# Altium footprint library EasyARM-i.MX283-EV V1.01.PcbLib: 48 footprints (part 1 of 3)
Each footprint in its own frame and in the unit in brackets; x right, y up, seen from the top. Pads: shape width x height; smd on the part's side, far side on the other; paste and mask are expansions set on the pad; w line width, h text height; cw(c..) or ccw(c..) is an arc to the next point about the centre after c.
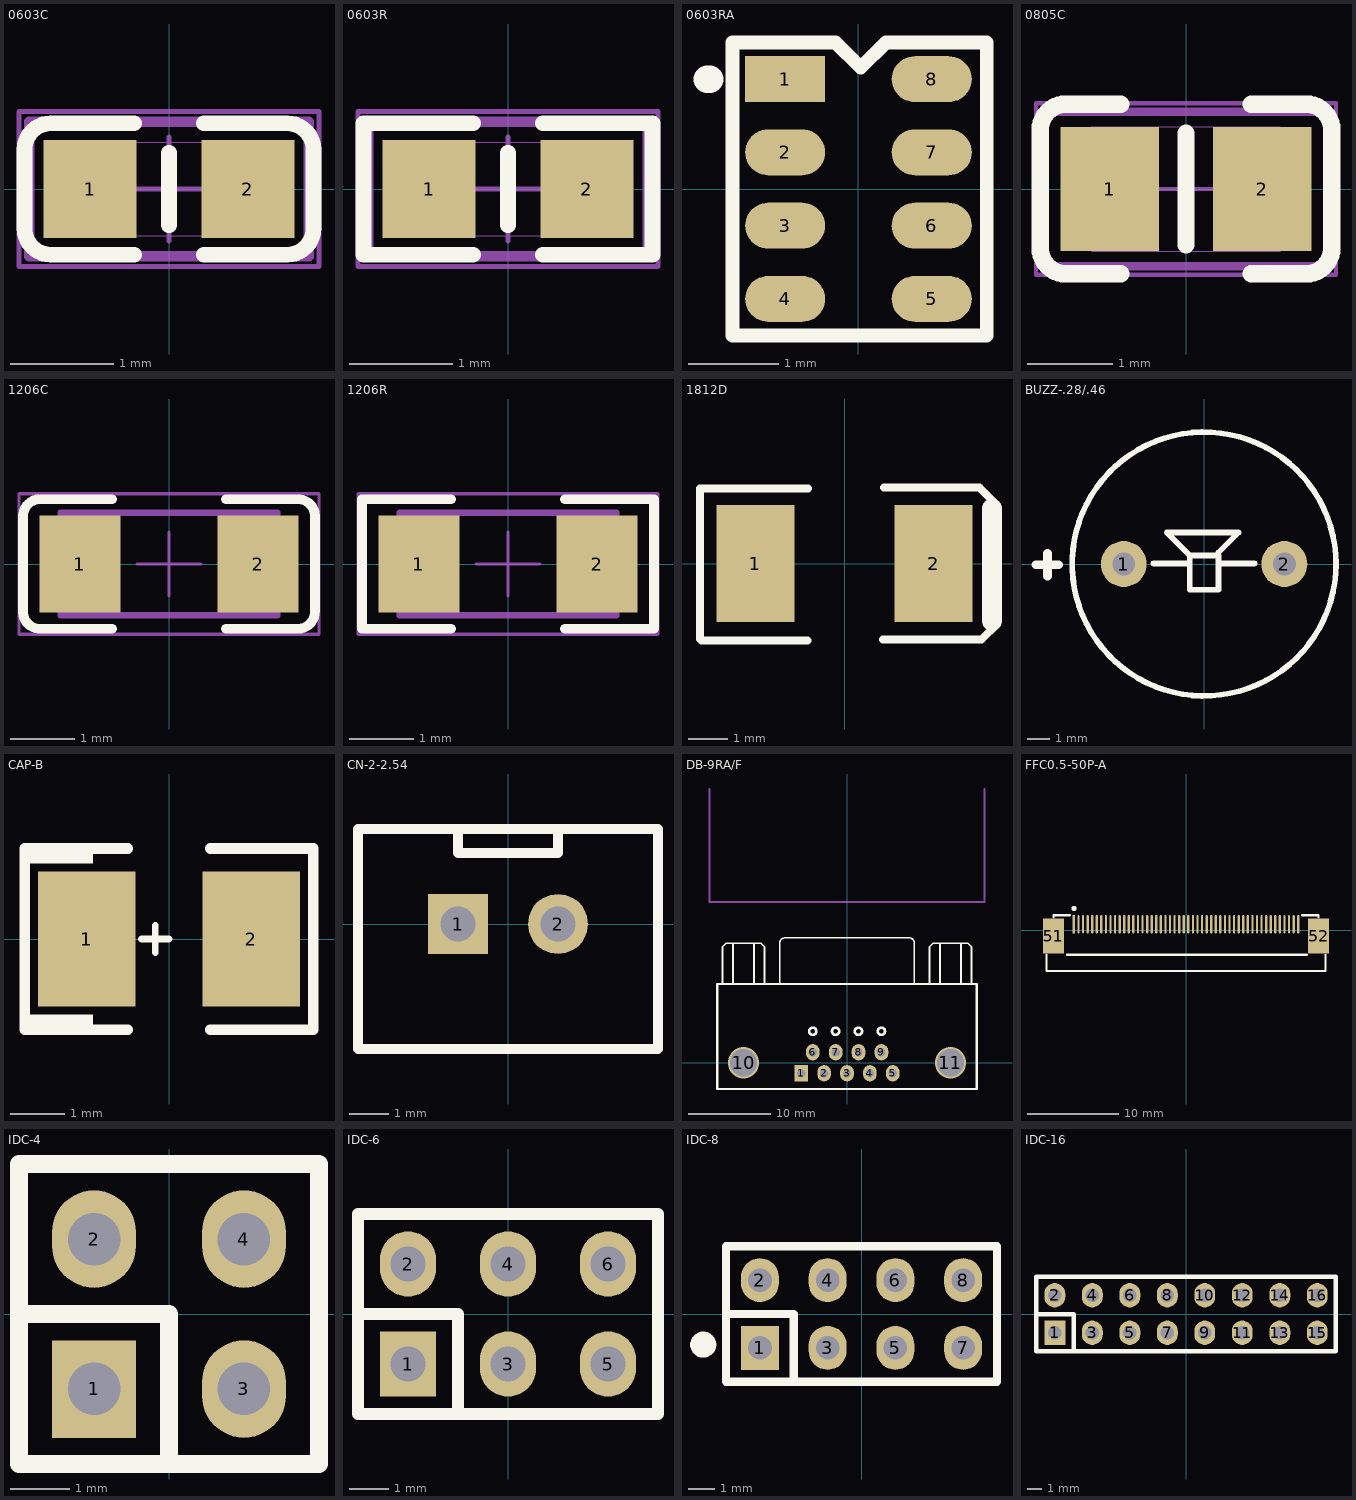
[diagram p0: the footprints below, top view; thin cyan lines are the x and y axes]

## 0603C [mm]
pads (2):
  rect 0.9x0.95 smd: 1(-0.762,0) 2(0.762,0)
Top Overlay:
  lines w0.152: -0.337,-0.635 -1.143,-0.635 cw(c-1.143,-0.381) -1.397,-0.381 -1.397,0.381 cw(c-1.143,0.381) -1.143,0.635 -0.337,0.635 ; 0,-0.35 0,0.35 ; 0.337,-0.635 1.143,-0.635 ccw(c1.143,-0.381) 1.397,-0.381 1.397,0.381 ccw(c1.143,0.381) 1.143,0.635 0.337,0.635
Mechanical 15:
  lines w0.1: -1.35,-0.65 1.35,-0.65 1.35,0.65 -1.35,0.65 -1.35,-0.65
  text "1" at -0.126,-0.345 h0.58
Mechanical 16:
  lines w0.001: -0.85,-0.45 0.85,-0.45 0.85,0.45 -0.85,0.45 -0.85,-0.45
  lines w0.05: -0.5,0 0.5,0 ; 0,-0.5 0,0.5 ; -1.45,-0.75 1.45,-0.75 1.45,0.75 -1.45,0.75 -1.45,-0.75
3D body: height 0.3, standoff 0, extent -0.789,-0.381 0.811,0.419

## 0603R [mm]
pads (2):
  rect 0.9x0.95 smd: 1(-0.762,0) 2(0.762,0)
Top Overlay:
  lines w0.152: -0.337,-0.635 -1.397,-0.635 -1.397,0.635 -0.337,0.635 ; 0,-0.35 0,0.35 ; 0.337,-0.635 1.397,-0.635 1.397,0.635 0.337,0.635
Mechanical 15:
  lines w0.1: -1.35,-0.65 -1.35,0.65 1.35,0.65 1.35,-0.65 -1.35,-0.65
  text "1" at -0.126,-0.345 h0.58
Mechanical 16:
  lines w0.001: -0.85,-0.45 -0.85,0.45 0.85,0.45 0.85,-0.45 -0.85,-0.45
  lines w0.05: -0.5,0 0.5,0 ; 0,-0.5 0,0.5 ; -1.45,-0.75 -1.45,0.75 1.45,0.75 1.45,-0.75 -1.45,-0.75
3D body: height 0.3, standoff 0, extent -0.8,-0.4 0.8,0.4

## 0603RA [mil]
pads (8):
  rect 35x20 smd: 1(-32,48)
  oval 35x20 smd: 2(-32,16) 3(-32,-16) 4(-32,-48) 5(32,-48) 6(32,-16) 7(32,16) 8(32,48)
Top Overlay:
  lines w6: -55,-64 56,-64 56,64 12,64 1,53 -10,64 -55,64 -55,-64
  lines w12: -66,48 -65,48
3D body: height 21.73, standoff 0, extent 23.62,5.91 33.46,25.59
3D body: height 21.73, standoff 0, extent 23.62,37.4 33.46,57.09
3D body: height 21.73, standoff 0, extent 23.62,-25.59 33.46,-5.91
3D body: height 21.73, standoff 0, extent 23.62,-57.09 33.46,-37.4
3D body: height 21.73, standoff 0, extent -33.46,-57.09 -23.62,-37.4
3D body: height 21.73, standoff 0, extent -33.46,-25.59 -23.62,-5.91
3D body: height 21.73, standoff 0, extent -33.46,37.4 -23.62,57.09
3D body: height 21.73, standoff 0, extent -33.46,5.91 -23.62,25.59
3D body: height 21.65, standoff 20.47, extent -25.59,-62.99 25.59,62.99
3D body: height 20.87, standoff 0, extent -31.5,-62.99 31.5,62.99

## 0805C [mm]
pads (2):
  rect 1.15x1.45 smd: 1(-0.889,0) 2(0.889,0)
Top Overlay:
  lines w0.2: 0,-0.65 0,0.65
  lines w0.203: -0.762,-0.991 -1.397,-0.991 cw(c-1.397,-0.686) -1.702,-0.686 -1.702,0.686 cw(c-1.397,0.686) -1.397,0.991 -0.762,0.991 ; 0.762,-0.991 1.397,-0.991 ccw(c1.397,-0.686) 1.702,-0.686 1.702,0.686 ccw(c1.397,0.686) 1.397,0.991 0.762,0.991
Mechanical 15:
  lines w0.1: -1.65,-0.9 -1.65,0.9 1.65,0.9 1.65,-0.9 -1.65,-0.9
  text "1" at -0.164,-0.45 h0.75
Mechanical 16:
  lines w0.001: -1.1,-0.725 -1.1,0.725 1.1,0.725 1.1,-0.725 -1.1,-0.725
  lines w0.05: -0.5,0 0.5,0 ; 0,-0.5 0,0.5 ; -1.75,-1 -1.75,1 1.75,1 1.75,-1 -1.75,-1
3D body: height 0.78, standoff 0, extent -1,-0.625 1,0.625

## 1206C [mil]
pads (2):
  rect 50x60 smd: 1(-55,0) 2(55,0)
Top Overlay:
  lines w6: -90,29 cw(c-79.5,29.5) -80,40 -35,40 ; -90,30 -90,-30 ccw(c-79.5,-29.5) -79,-40 ; -80,-40 -35,-40 ; 35,-40 79,-40 ; 35,40 80,40 ; 79,40 cw(c79.5,29.5) 90,30 90,-29 cw(c79.5,-29.5) 80,-40
Mechanical 15:
  lines w3.94: -66.93,-31.5 66.93,-31.5 66.93,31.5 -66.93,31.5 -66.93,-31.5
  text "1" at -6.47,-17.71 h29.53
Mechanical 16:
  lines w0.04: -66.93,-31.5 66.93,-31.5 66.93,31.5 -66.93,31.5 -66.93,-31.5
  lines w1.97: -19.68,0 19.68,0 ; 0,-19.68 0,19.68 ; -92.52,-43.31 92.52,-43.31 92.52,43.31 -92.52,43.31 -92.52,-43.31
3D body: height 39.37, standoff 0, extent -62,-32 63.98,30.99

## 1206R [mil]
pads (2):
  rect 50x60 smd: 1(-55,0) 2(55,0)
Top Overlay:
  lines w6: -35,-40 -90,-40 -90,40 -35,40 ; 35,-40 90,-40 90,40 35,40
Mechanical 15:
  lines w3.94: -66.93,-31.5 66.93,-31.5 66.93,31.5 -66.93,31.5 -66.93,-31.5
  text "1" at -6.47,-17.71 h29.53
Mechanical 16:
  lines w0.04: -66.93,-31.5 66.93,-31.5 66.93,31.5 -66.93,31.5 -66.93,-31.5
  lines w1.97: -19.68,0 19.68,0 ; 0,-19.68 0,19.68 ; -92.52,-43.31 92.52,-43.31 92.52,43.31 -92.52,43.31 -92.52,-43.31
3D body: height 23.62, standoff 0, extent -62.93,-31.5 63.06,31.5

## 1812D [mm]
pads (2):
  rect 2x3 smd: 1(-2.286,0) 2(2.286,0)
Top Overlay:
  lines w0.203: -3.2,1.93 -0.94,1.93 ; -3.176,-1.97 -0.954,-1.97 ; -1.27,-1.97 -0.954,-1.97 ; 0.986,-1.951 3.307,-1.951 3.51,-1.951 3.912,-1.549 ; 1.009,1.949 3.247,1.949 3.461,1.949 3.861,1.549 ; -3.708,1.93 -0.94,1.93 ; -3.708,1.93 -3.708,-1.93 -3.669,-1.97 -0.954,-1.97 ; -3.708,1.93 -0.94,1.93
  lines w0.508: 3.785,-1.473 3.785,1.412
3D body: height 2.18, standoff 0, extent -2.286,-1.727 2.286,1.727
3D body: height 2.19, standoff 2.18, extent 1.473,-1.727 2.184,1.727
3D body: height 1.32, standoff 0, extent -2.54,-1.016 -2.286,1.016
3D body: height 1.32, standoff 0, extent 2.286,-1.016 2.54,1.016

## BUZZ-.28/.46 [mil]
pads (2):
  round 80 hole 40: 1(-140,0) 2(140,0)
Top Overlay:
  circle w10: c0,0 r230
  lines w10: -88,1 -25,1 ; 25,1 88,1 ; 25,19.94 60,54.94 -65,54.94 -25,14.94 ; -25,14.94 25,14.94 25,-45.06 -25,-45.06 -25,14.94
  lines w15: -293,-1 -253,-1 ; -273,-21 -273,19
3D body: height 379.92, standoff -177.17, extent -365.47,-236.22 242.96,236.22

## CAP-B [mm]
pads (2):
  rect 1.8x2.5 smd: 1(-1.524,0)
  rect 1.8x2.5 smd paste+0: 2(1.524,0)
Top Overlay:
  rectangle: -2.672,1.397 -1.402,1.677
  rectangle: -2.672,-1.676 -1.402,-1.397
  lines w0.127: -0.508,0 0,0 ; -0.254,-0.254 -0.254,0.254
  lines w0.2: -0.762,-1.676 -2.667,-1.676 -2.667,1.676 -0.762,1.676 ; 0.762,-1.676 2.667,-1.676 2.667,1.676 0.762,1.676
3D body: height 1.9, standoff 0, extent -1.829,-1.397 1.871,1.403

## CN-2-2.54 [mil]
pads (2):
  rect 60x60 hole 35: 1(-50,0)
  round 60 hole 35: 2(50,0)
Top Overlay:
  lines w10: -50,95 -50,71 50,71 50,95 ; -50,95 -150,95 -150,-125 150,-125 150,95 50,95 ; -50,95 50,95
3D body: height 275.59, standoff -118.11, extent -147.44,-139.57 147.83,96.65

## DB-9RA/F [mil]
pads (11):
  rect 65x78 hole 40: 1(-218,-50)
  oval 65x78 hole 40: 2(-109,-50) 3(0,-50) 4(109,-50) 5(218,-50) 6(-163,50) 7(-54,50) 8(55,50) 9(164,50)
  round 150 hole 130: 10(-493,0) 11(493,0)
Top Overlay:
  circle w12: c54.74,150 r17.26
  circle w12: c-54.26,150 r17.26
  circle w12: c-163.26,150 r17.26
  circle w12: c163.74,150 r17.26
  lines w8: -593,375 -593,553 -576,570 -410,570 -393,553 -393,375 ; -543,375 -543,570 ; -443,375 -443,570 ; -320,375 -320,570 cw(c-295,570) -295,595 296,595 cw(c296,570) 321,570 321,375 ; 393,375 393,553 410,570 576,570 593,553 593,375 ; 443,375 443,570 ; 543,375 543,570
  lines w10: -618,-125 618,-125 618,375 -618,375 -618,-125
Mechanical 15:
  lines w8: -655,1304 -655,766 655,766 655,1304
  text "外面插头的宽度，放置时请注意" at -460,854 h70
3D body: height 504.38, standoff -114.62, extent -605.76,-136.22 607.24,614.78

## FFC0.5-50P-A [mm]
pads (52):
  rect 0.25x2 smd: 1(-12.246,0.645)
  oval 0.25x2 smd: 2(-11.746,0.645) 3(-11.246,0.645) 4(-10.746,0.645) 5(-10.246,0.645) 6(-9.746,0.645) 7(-9.246,0.645) 8(-8.746,0.645) 9(-8.246,0.645) 10(-7.746,0.645) 11(-7.246,0.645) 12(-6.746,0.645) 13(-6.246,0.645) 14(-5.746,0.645) 15(-5.246,0.645) 16(-4.746,0.645) 17(-4.246,0.645) 18(-3.746,0.645) 19(-3.246,0.645) 20(-2.746,0.645) 21(-2.246,0.645) 22(-1.746,0.645) 23(-1.246,0.645) 24(-0.746,0.645) 25(-0.246,0.645) 26(0.254,0.645) 27(0.754,0.645) 28(1.254,0.645) 29(1.754,0.645) 30(2.254,0.645) 31(2.754,0.645) 32(3.254,0.645) 33(3.754,0.645) 34(4.254,0.645) 35(4.754,0.645) 36(5.254,0.645) 37(5.754,0.645) 38(6.254,0.645) 39(6.754,0.645) 40(7.254,0.645) 41(7.754,0.645) 42(8.254,0.645) 43(8.754,0.645) 44(9.254,0.645) 45(9.754,0.645) 46(10.254,0.645) 47(10.754,0.645) 48(11.254,0.645) 49(11.754,0.645) 50(12.254,0.645)
  rect 2.286x3.81 smd: 51(-14.478,-0.645) 52(14.478,-0.645)
Top Overlay:
  circle w0.254: c-12.228,2.362 r0.163
  lines w0.254: -15.24,-2.677 -15.24,-4.455 15.24,-4.455 15.24,-2.677 ; -14.478,1.387 -14.478,1.641 -12.7,1.641 ; -12.954,-2.677 13.208,-2.677 ; 12.7,1.641 14.478,1.641 14.478,1.387

## IDC-4 [mil]
pads (4):
  rect 56x65 hole 35: 1(-50,-50)
  oval 56x65 hole 35: 2(-50,50) 3(50,-50) 4(50,50)
Top Overlay:
  lines w12: -100,0 0,0 0,-100 ; -100,-100 -100,100 100,100 100,-100 -100,-100
3D body: height 298.43, standoff -115.75, extent -100,0 0,100
3D body: height 298.43, standoff -115.75, extent 0,0 100,100
3D body: height 298.43, standoff -115.75, extent -100,-100 0,0
3D body: height 298.43, standoff -115.75, extent 0,-100 100,0

## IDC-6 [mil]
pads (6):
  rect 56x65 hole 35: 1(-100,-50)
  oval 56x65 hole 35: 2(-100,50) 3(0,-50) 4(0,50) 5(100,-50) 6(100,50)
Top Overlay:
  lines w12: -150,0 -50,0 -50,-100 ; -150,-100 150,-100 150,100 -150,100 -150,-100
3D body: height 298.43, standoff -115.75, extent 50,-100 150,0
3D body: height 298.43, standoff -115.75, extent 50,0 150,100
3D body: height 298.43, standoff -115.75, extent -50,-100 50,0
3D body: height 298.43, standoff -115.75, extent -150,-100 -50,0
3D body: height 298.43, standoff -115.75, extent -50,0 50,100
3D body: height 298.43, standoff -115.75, extent -150,0 -50,100

## IDC-8 [mil]
pads (8):
  rect 56x65 hole 35: 1(-150,-50)
  oval 56x65 hole 35: 2(-150,50) 3(-50,-50) 4(-50,50) 5(50,-50) 6(50,50) 7(150,-50) 8(150,50)
Top Overlay:
  circle w20: c-233.64,-45.23 r9.22
  lines w12: -200,0 -100,0 -100,-100 ; -200,-100 200,-100 200,100 -200,100 -200,-100
3D body: height 298.43, standoff -115.75, extent 100,-100 200,0
3D body: height 298.43, standoff -115.75, extent 0,-100 100,0
3D body: height 298.43, standoff -115.75, extent 100,0 200,100
3D body: height 298.43, standoff -115.75, extent 0,0 100,100
3D body: height 298.43, standoff -115.75, extent -100,-100 0,0
3D body: height 298.43, standoff -115.75, extent -200,-100 -100,0
3D body: height 298.43, standoff -115.75, extent -100,0 0,100
3D body: height 298.43, standoff -115.75, extent -200,0 -100,100

## IDC-16 [mil]
pads (16):
  rect 56x65 hole 35: 1(-350,-50)
  oval 56x65 hole 35: 2(-350,50) 3(-250,-50) 4(-250,50) 5(-150,-50) 6(-150,50) 7(-50,-50) 8(-50,50) 9(50,-50) 10(50,50) 11(150,-50) 12(150,50) 13(250,-50) 14(250,50) 15(350,-50) 16(350,50)
Top Overlay:
  lines w12: -400,0 -300,0 -300,-100 ; -400,-100 400,-100 400,100 -400,100 -400,-100
3D body: height 298.43, standoff -115.75, extent 300,-100 400,0
3D body: height 298.43, standoff -115.75, extent 200,-100 300,0
3D body: height 298.43, standoff -115.75, extent 300,0 400,100
3D body: height 298.43, standoff -115.75, extent 200,0 300,100
3D body: height 298.43, standoff -115.75, extent 100,-100 200,0
3D body: height 298.43, standoff -115.75, extent 0,-100 100,0
3D body: height 298.43, standoff -115.75, extent 100,0 200,100
3D body: height 298.43, standoff -115.75, extent 0,0 100,100
3D body: height 298.43, standoff -115.75, extent -100,-100 0,0
3D body: height 298.43, standoff -115.75, extent -200,-100 -100,0
3D body: height 298.43, standoff -115.75, extent -100,0 0,100
3D body: height 298.43, standoff -115.75, extent -200,0 -100,100
3D body: height 298.43, standoff -115.75, extent -300,-100 -200,0
3D body: height 298.43, standoff -115.75, extent -400,-100 -300,0
3D body: height 298.43, standoff -115.75, extent -300,0 -200,100
3D body: height 298.43, standoff -115.75, extent -400,0 -300,100